# Altium footprint library PMGlibPCB.PcbLib: 33 footprints (part 2 of 3)
Each footprint in its own frame and in the unit in brackets; x right, y up, seen from the top. Pads: shape width x height; smd on the part's side, far side on the other; paste and mask are expansions set on the pad; w line width, h text height; cw(c..) or ccw(c..) is an arc to the next point about the centre after c.
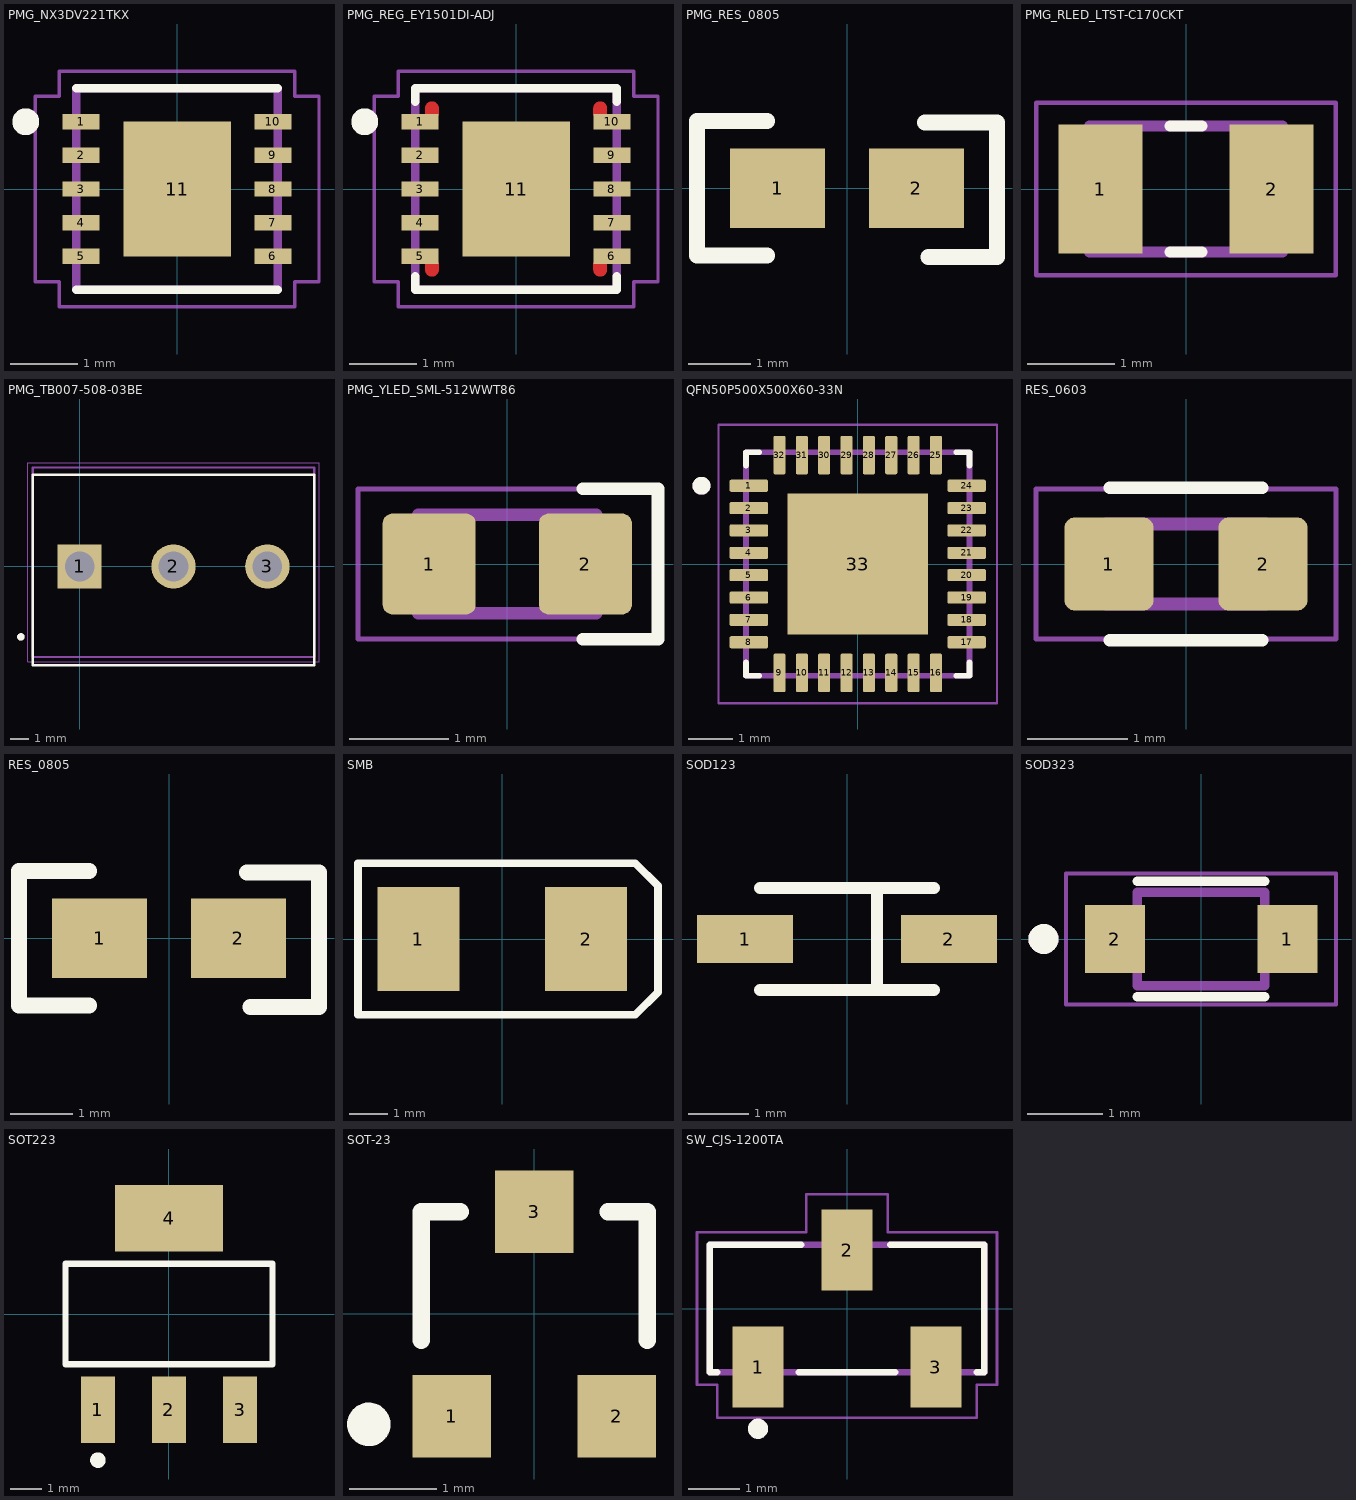
[diagram p1: the footprints below, top view; thin cyan lines are the x and y axes]

## PMG_NX3DV221TKX [mm] "SWDAT_IC USB 2.0 SWITCH HS 10HVSON"
pads (11):
  rect 0.55x0.23 smd: 1(-1.425,1) 2(-1.425,0.5) 3(-1.425,0) 4(-1.425,-0.5) 5(-1.425,-1) 6(1.425,-1) 7(1.425,-0.5) 8(1.425,0) 9(1.425,0.5) 10(1.425,1)
  rect 1.6x2 smd paste-2: 11(0,0)
Top Overlay:
  circle w0.2: c-2.25,1 r0.1
  lines w0.127: -1.5,-1.5 1.5,-1.5 ; -1.5,1.5 1.5,1.5
Top Paste:
  region: 0.506,-0.635 -0.506,-0.635 -0.506,0.634 0.506,0.634
3D Top:
  lines w0.127: -1.5,-1.5 1.5,-1.5 1.5,1.5 -1.5,1.5 -1.5,-1.5
Courtyard Top:
  lines w0.05: -2.11,-1.38 -1.75,-1.38 -1.75,-1.75 1.75,-1.75 1.75,-1.38 2.11,-1.38 2.11,1.38 1.75,1.38 1.75,1.75 -1.75,1.75 -1.75,1.38 -2.11,1.38 -2.11,-1.38
3D body: height 0.85, standoff 0, extent -1.5,-1.5 1.5,1.5

## PMG_REG_EY1501DI-ADJ [mm] "IC USB 2.0 SWITCH HS 10HVSON"
height 0.127
pads (11):
  rect 0.55x0.23 smd: 1(-1.425,1) 2(-1.425,0.5) 3(-1.425,0) 4(-1.425,-0.5) 5(-1.425,-1) 6(1.425,-1) 7(1.425,-0.5) 8(1.425,0) 9(1.425,0.5) 10(1.425,1)
  rect 1.6x2 smd paste-2: 11(0,0)
Top Layer:
  region: 1.35,-1.2 1.35,-1.205 1.349,-1.21 1.349,-1.216 1.348,-1.221 1.347,-1.226 1.345,-1.231 1.343,-1.236 1.341,-1.241 1.339,-1.245 1.337,-1.25 1.334,-1.254 1.331,-1.259 1.328,-1.263 1.324,-1.267 1.321,-1.271 1.317,-1.274 1.313,-1.278 1.309,-1.281 1.304,-1.284 1.3,-1.287 1.295,-1.289 1.291,-1.291 1.286,-1.293 1.281,-1.295 1.276,-1.297 1.271,-1.298 1.266,-1.299 1.26,-1.299 1.255,-1.3 1.25,-1.3 1.245,-1.3 1.24,-1.299 1.234,-1.299 1.229,-1.298 1.224,-1.297 1.219,-1.295 1.214,-1.293 1.209,-1.291 1.205,-1.289 1.2,-1.287 1.196,-1.284 1.191,-1.281 1.187,-1.278 1.183,-1.274 1.179,-1.271 1.176,-1.267 1.172,-1.263 1.169,-1.259 1.166,-1.254 1.163,-1.25 1.161,-1.245 1.159,-1.241 1.157,-1.236 1.155,-1.231 1.153,-1.226 1.152,-1.221 1.151,-1.216 1.151,-1.21 1.15,-1.205 1.15,-1.2 1.15,-1.1 1.35,-1.1
  region: -1.15,-1.2 -1.15,-1.205 -1.151,-1.21 -1.151,-1.216 -1.152,-1.221 -1.153,-1.226 -1.155,-1.231 -1.157,-1.236 -1.159,-1.241 -1.161,-1.245 -1.163,-1.25 -1.166,-1.254 -1.169,-1.259 -1.172,-1.263 -1.176,-1.267 -1.179,-1.271 -1.183,-1.274 -1.187,-1.278 -1.191,-1.281 -1.196,-1.284 -1.2,-1.287 -1.205,-1.289 -1.209,-1.291 -1.214,-1.293 -1.219,-1.295 -1.224,-1.297 -1.229,-1.298 -1.234,-1.299 -1.24,-1.299 -1.245,-1.3 -1.25,-1.3 -1.255,-1.3 -1.26,-1.299 -1.266,-1.299 -1.271,-1.298 -1.276,-1.297 -1.281,-1.295 -1.286,-1.293 -1.291,-1.291 -1.295,-1.289 -1.3,-1.287 -1.304,-1.284 -1.309,-1.281 -1.313,-1.278 -1.317,-1.274 -1.321,-1.271 -1.324,-1.267 -1.328,-1.263 -1.331,-1.259 -1.334,-1.254 -1.337,-1.25 -1.339,-1.245 -1.341,-1.241 -1.343,-1.236 -1.345,-1.231 -1.347,-1.226 -1.348,-1.221 -1.349,-1.216 -1.349,-1.21 -1.35,-1.205 -1.35,-1.2 -1.35,-1.1 -1.15,-1.1
  region: 1.255,1.3 1.26,1.299 1.266,1.299 1.271,1.298 1.276,1.297 1.281,1.295 1.286,1.293 1.291,1.291 1.295,1.289 1.3,1.287 1.304,1.284 1.309,1.281 1.313,1.278 1.317,1.274 1.321,1.271 1.324,1.267 1.328,1.263 1.331,1.259 1.334,1.254 1.337,1.25 1.339,1.245 1.341,1.241 1.343,1.236 1.345,1.231 1.347,1.226 1.348,1.221 1.349,1.216 1.349,1.21 1.35,1.205 1.35,1.2 1.35,1.1 1.15,1.1 1.15,1.2 1.15,1.205 1.151,1.21 1.151,1.216 1.152,1.221 1.153,1.226 1.155,1.231 1.157,1.236 1.159,1.241 1.161,1.245 1.163,1.25 1.166,1.254 1.169,1.259 1.172,1.263 1.176,1.267 1.179,1.271 1.183,1.274 1.187,1.278 1.191,1.281 1.196,1.284 1.2,1.287 1.205,1.289 1.209,1.291 1.214,1.293 1.219,1.295 1.224,1.297 1.229,1.298 1.234,1.299 1.24,1.299 1.245,1.3 1.25,1.3
  region: -1.245,1.3 -1.24,1.299 -1.234,1.299 -1.229,1.298 -1.224,1.297 -1.219,1.295 -1.214,1.293 -1.209,1.291 -1.205,1.289 -1.2,1.287 -1.196,1.284 -1.191,1.281 -1.187,1.278 -1.183,1.274 -1.179,1.271 -1.176,1.267 -1.172,1.263 -1.169,1.259 -1.166,1.254 -1.163,1.25 -1.161,1.245 -1.159,1.241 -1.157,1.236 -1.155,1.231 -1.153,1.226 -1.152,1.221 -1.151,1.216 -1.151,1.21 -1.15,1.205 -1.15,1.2 -1.15,1.1 -1.35,1.1 -1.35,1.2 -1.35,1.205 -1.349,1.21 -1.349,1.216 -1.348,1.221 -1.347,1.226 -1.345,1.231 -1.343,1.236 -1.341,1.241 -1.339,1.245 -1.337,1.25 -1.334,1.254 -1.331,1.259 -1.328,1.263 -1.324,1.267 -1.321,1.271 -1.317,1.274 -1.313,1.278 -1.309,1.281 -1.304,1.284 -1.3,1.287 -1.295,1.289 -1.291,1.291 -1.286,1.293 -1.281,1.295 -1.276,1.297 -1.271,1.298 -1.266,1.299 -1.26,1.299 -1.255,1.3 -1.25,1.3
Top Overlay:
  circle w0.2: c-2.25,1 r0.1
  lines w0.127: -1.5,-1.3 -1.5,-1.5 1.5,-1.5 1.5,-1.3 ; -1.5,1.3 -1.5,1.5 1.5,1.5 1.5,1.3
Top Paste:
  drawing of 5 lines, arcs and shapes, not listed
Top Solder:
  region: -1.05,-1.341 -1.411,-1.341 -1.411,-1.1 -1.05,-1.1
  region: 1.41,-1.343 1.052,-1.343 1.052,-1.1 1.41,-1.1
  region: 1.4,1.102 1.042,1.102 1.042,1.34 1.4,1.34
  region: -1.05,1.11 -1.41,1.11 -1.41,1.35 -1.05,1.35
3D Top:
  lines w0.127: -1.5,-1.5 1.5,-1.5 1.5,1.5 -1.5,1.5 -1.5,-1.5
Courtyard Top:
  lines w0.05: -2.11,-1.38 -1.75,-1.38 -1.75,-1.75 1.75,-1.75 1.75,-1.38 2.11,-1.38 2.11,1.38 1.75,1.38 1.75,1.75 -1.75,1.75 -1.75,1.38 -2.11,1.38 -2.11,-1.38
3D body: height 0.8, standoff 0, extent -1.56,-1.55 1.56,1.55

## PMG_RES_0805 [mil]
pads (2):
  rect 60x50 smd: 1(-43.78,0) 2(43.78,0)
Top Overlay:
  lines w10: -50.2,-42.32 -94.49,-42.32 ; -50.2,42.32 -94.49,42.32 ; 49.21,41.34 94.49,41.34 94.49,-43.31 51.18,-43.31 ; -94.49,-42.32 -94.49,42.32 ; -94.49,-42.32 -94.49,-42.32 ; -94.49,42.32 -94.49,42.32
3D body: height 21.65, standoff 0, extent -61.02,-30.39 61.03,30.71

## PMG_RLED_LTST-C170CKT [mm] "DIODE, LED RED 0805"
pads (2):
  rect 0.96x1.47 smd: 1(-0.978,0) 2(0.978,0)
Top Overlay:
  lines w0.127: -0.18,-0.72 0.18,-0.72 ; -0.18,0.72 0.18,0.72
3D Top:
  lines w0.127: -1.1,-0.72 1.1,-0.72 1.1,0.72 -1.1,0.72 -1.1,-0.72
Courtyard Top:
  lines w0.05: -1.708,-0.983 1.708,-0.983 1.708,0.983 -1.708,0.983 -1.708,-0.983

## PMG_SWITCH_EVQQ2U02W [mm] "SWITCH TACTILE SPST-NO 0.02A 15V"

## PMG_TB007-508-03BE [mm] "CONN RELAY BLOCK"
height 14
pads (3):
  rect 2.4x2.4 hole 1.6: 1(0,0)
  round 2.4 hole 1.6: 2(5.08,0) 3(10.16,0)
Top Overlay:
  circle w0.2: c-3.175,-3.81 r0.1
  lines w0.127: -2.54,-5.334 12.7,-5.334 12.7,4.953 -2.54,4.953 -2.54,-5.334
3D Top:
  circle w0.2: c-3.175,-3.81 r0.1
  lines w0.127: -2.54,-4.9 12.7,-4.9 12.7,5.35 -2.54,5.35 -2.54,-4.9
Courtyard Top:
  lines w0.05: -2.79,-5.15 -2.79,5.6 12.95,5.6 12.95,-5.15 -2.79,-5.15
3D body: height 2, standoff -15.7, extent -2.611,-5.309 13.229,4.941

## PMG_YLED_SML-512WWT86 [mm] "LED YELLOW DIFFUSED 0603 SMD"
height 0.8
pads (2):
  rrect20% 0.94x1.02 smd: 1(-0.79,0) 2(0.79,0)
Top Overlay:
  lines w0.127: 0.762,-0.762 1.524,-0.762 1.524,0.762 0.762,0.762
3D Top:
  lines w0.127: -0.9,-0.5 -0.9,0.5 0.9,0.5 0.9,-0.5 -0.9,-0.5
Courtyard Top:
  lines w0.05: -1.51,-0.76 -1.51,0.76 1.51,0.76 1.51,-0.76 -1.51,-0.76
3D body: height 0.6, standoff 0, extent -0.8,-0.4 0.8,0.4

## QFN50P500X500X60-33N [mm]
pads (33):
  rrect25% 0.86x0.27 smd: 1(-2.435,1.75) 2(-2.435,1.25) 3(-2.435,0.75) 4(-2.435,0.25) 5(-2.435,-0.25) 6(-2.435,-0.75) 7(-2.435,-1.25) 8(-2.435,-1.75) 17(2.435,-1.75) 18(2.435,-1.25) 19(2.435,-0.75) 20(2.435,-0.25) 21(2.435,0.25) 22(2.435,0.75) 23(2.435,1.25) 24(2.435,1.75)
  rrect25% 0.27x0.86 smd: 9(-1.75,-2.435) 10(-1.25,-2.435) 11(-0.75,-2.435) 12(-0.25,-2.435) 13(0.25,-2.435) 14(0.75,-2.435) 15(1.25,-2.435) 16(1.75,-2.435) 25(1.75,2.435) 26(1.25,2.435) 27(0.75,2.435) 28(0.25,2.435) 29(-0.25,2.435) 30(-0.75,2.435) 31(-1.25,2.435) 32(-1.75,2.435)
  rect 3.15x3.15 smd paste-3: 33(0,0)
Top Overlay:
  circle w0.2: c-3.495,1.75 r0.1
  lines w0.127: -2.5,-2.205 -2.5,-2.5 -2.205,-2.5 ; -2.5,2.205 -2.5,2.5 -2.205,2.5 ; 2.205,-2.5 2.5,-2.5 2.5,-2.205 ; 2.205,2.5 2.5,2.5 2.5,2.205
Top Paste:
  region: 1,-1 -1,-1 -1,1 1,1
3D Top:
  circle w0.2: c-3.495,1.75 r0.1
  lines w0.127: -2.5,-2.5 2.5,-2.5 2.5,2.5 -2.5,2.5 -2.5,-2.5
Courtyard Top:
  lines w0.05: -3.115,-3.115 3.115,-3.115 3.115,3.115 -3.115,3.115 -3.115,-3.115
3D body: height 0.6, standoff 0, extent -2.5,-2.5 2.5,2.5

## RES_0603 [mm] "RES 0603 .125W"
height 0.9
pads (2):
  rrect22% 0.89x0.93 smd: 1(-0.77,0) 2(0.77,0)
Top Overlay:
  lines w0.127: -0.762,-0.762 0.762,-0.762 ; -0.762,0.762 0.762,0.762
3D Top:
  circle w0.1: c-1.05,0 r0.05
  lines w0.127: -0.8,-0.4 -0.8,0.4 0.8,0.4 0.8,-0.4 -0.8,-0.4
Courtyard Top:
  lines w0.05: -1.5,-0.75 -1.5,0.75 1.5,0.75 1.5,-0.75 -1.5,-0.75
3D body: height 0.48, standoff -0.03, extent -0.8,-0.43 0.8,0.43

## RES_0805 [mil]
pads (2):
  rect 60x50 smd: 1(-43.78,0) 2(43.78,0)
Top Overlay:
  lines w10: -50.2,-42.32 -94.49,-42.32 ; -50.2,42.32 -94.49,42.32 ; 49.21,41.34 94.49,41.34 94.49,-43.31 51.18,-43.31 ; -94.49,-42.32 -94.49,42.32 ; -94.49,-42.32 -94.49,-42.32 ; -94.49,42.32 -94.49,42.32
3D body: height 21.65, standoff 0, extent -61.02,-30.39 61.03,30.71

## SMB [mm] "DIODE SCHOTTKY 40V 1A SMB"
height 1.95
pads (2):
  rect 2.159x2.743 smd: 1(-2.21,0) 2(2.21,0)
Top Overlay:
  lines w0.2: -3.8,-2 3.5,-2 4.1,-1.4 4.1,1.4 3.5,2 -3.8,2 -3.8,-2
3D body: height 1.52, standoff 0, extent -3,-1 -2.5,1
3D body: height 1.52, standoff 0, extent 2.5,-1 3,1
3D body: height 2.3, standoff 0, extent -2.5,-2 2.5,2
3D body: height 2.31, standoff 2.3, extent 1.2,-2 1.9,2

## SOD123 [mm] "SOD123"
height 1.35
pads (2):
  rect 1.6x0.8 smd: 1(-1.7,0) 2(1.7,0)
Top Overlay:
  lines w0.2: -1.45,-0.85 1.45,-0.85 ; -1.45,0.85 1.45,0.85 ; 0.5,-0.85 0.5,0.85
3D body: height 1.27, standoff 0, extent -1.85,-0.8 1.85,0.8

## SOD323 [mm] "SOD323"
height 1.15
pads (2):
  rect 0.8x0.9 smd: 1(1.15,0) 2(-1.15,0)
Top Overlay:
  circle w0.2: c-2.1,0 r0.1
  lines w0.127: -0.85,-0.77 0.85,-0.77 ; -0.85,0.77 0.85,0.77
3D Top:
  circle w0.2: c-2.1,0 r0.1
  lines w0.127: -0.85,-0.625 0.85,-0.625 0.85,0.625 -0.85,0.625 -0.85,-0.625
Courtyard Top:
  lines w0.05: -1.8,-0.875 -1.8,0.875 1.8,0.875 1.8,-0.875 -1.8,-0.875
3D body: height 1.1, standoff 0, extent -1.3,-0.675 1.3,0.675

## SOT223 [mm] "SOT223"
height 1.8
pads (4):
  rect 1.1x2.15 smd: 1(-2.3,-3.1) 2(0,-3.1) 3(2.3,-3.1)
  rect 3.5x2.15 smd: 4(0,3.1)
Top Overlay:
  circle w0.25: c-2.3,-4.725 r0.125
  lines w0.2: -3.35,-1.625 3.35,-1.625 3.35,1.625 -3.35,1.625 -3.35,-1.625
3D body: height 1.6, standoff -0.08, extent -3.25,-3.48 3.25,3.48

## SOT-23 [mm] "SOT23-3"
height 1.1
pads (3):
  rect 0.9x0.95 smd: 1(-0.95,-1.175) 2(0.95,-1.175) 3(0,1.175)
Top Overlay:
  circle w0.25: c-1.903,-1.27 r0.125
  lines w0.2: -1.3,-0.3 -1.3,1.175 -0.85,1.175 ; 0.85,1.175 1.3,1.175 1.3,-0.3
3D body: height 1.05, standoff -0.05, extent -1.5,-1.25 1.5,1.25

## SW_CJS-1200TA [mm] "SWITCH CJS-1200TA"
height 2.5
pads (3):
  rect 1x1.6 smd: 1(-1.75,-1.15) 2(0,1.15) 3(1.75,-1.15)
Top Overlay:
  circle w0.2: c-1.75,-2.365 r0.1
  lines w0.127: -2.55,-1.25 -2.7,-1.25 -2.7,1.25 -0.9,1.25 ; -0.95,-1.25 0.95,-1.25 ; 0.85,1.25 2.7,1.25 2.7,-1.25 2.55,-1.25
3D Top:
  lines w0.127: -2.7,-1.25 -2.7,1.25 2.7,1.25 2.7,-1.25 -2.7,-1.25
Courtyard Top:
  lines w0.05: -2.95,-1.5 -2.95,1.5 -0.8,1.5 -0.8,2.25 0.8,2.25 0.8,1.5 2.95,1.5 2.95,-1.5 2.55,-1.5 2.55,-2.15 -2.55,-2.15 -2.55,-1.5 -2.95,-1.5
3D body: height 2.6, standoff 0, extent -2.7,-1.4 2.7,1.4